# EAGLE library part SP0506BAATG (library Littelfuse_By_element14_Batch_1)
TVS Diode Arrays
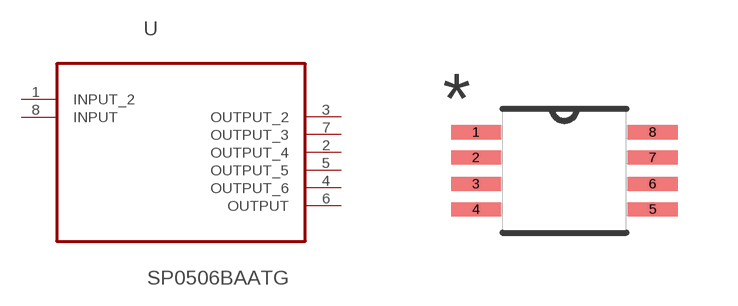
[diagram p1: symbol with the pads of SOP65P490X110-8N; footprint SOP65P490X110-8N]

Designator prefix U

## SP0506BAATG (MPN: SP0506BAATG; OC_FARNELL: 1827639; OC_NEWARK: 92K8965; PACKAGE: MSOP-8; SUPPLIER: LITTELFUSE)  [SOP65P490X110-8N]
1  INPUT_2  in
2  OUTPUT_4  out
3  OUTPUT_2  out
4  OUTPUT_6  out
5  OUTPUT_5  out
6  OUTPUT  out
7  OUTPUT_3  out
8  INPUT  in

## Footprint SOP65P490X110-8N (pad centres in mm)
smd 1.245 x 0.356: 1 -2.21,0.965; 2 -2.21,0.33; 3 -2.21,-0.33; 4 -2.21,-0.965; 5 2.21,-0.965; 6 2.21,-0.33; 7 2.21,0.33; 8 2.21,0.965